# EAGLE library part LT1206 (library opamps)
Linear Technology LT1206 CFB op-amp with shutdown
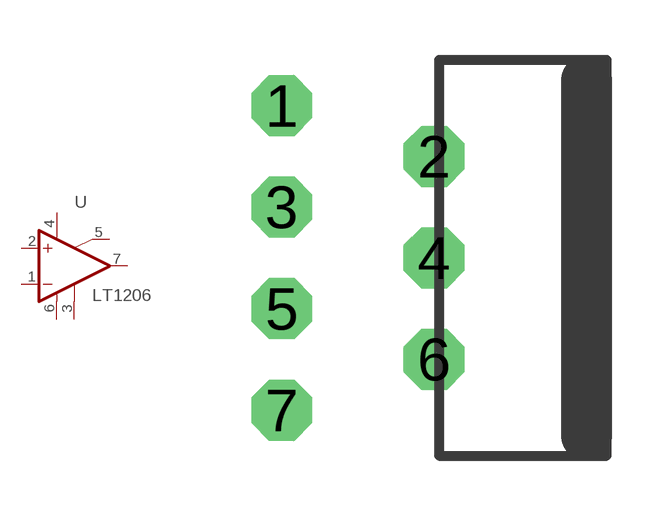
[diagram p1: symbol with the pads of TO-220-7; footprint TO-220-7]

Designator prefix -

## LT1206Y  [TO-220-7]
1  -IN  in
2  +IN  in
3  SD  pas
4  V+  pwr
5  COMP  pas
6  V-  pwr
7  OUT  out

## Footprint TO-220-7 (pad centres in mm)
7-pin staggered lead variant of TO-220
drill 1.016 octagon: 1 -3.81,3.81; 2 0,2.54; 3 -3.81,1.27; 4 0,0; 5 -3.81,-1.27; 6 0,-2.54; 7 -3.81,-3.81